# Altium schematic symbol library Serial.SchLib: 4 symbols
Pins are listed as number, name and electrical type; pins without a type are passive.

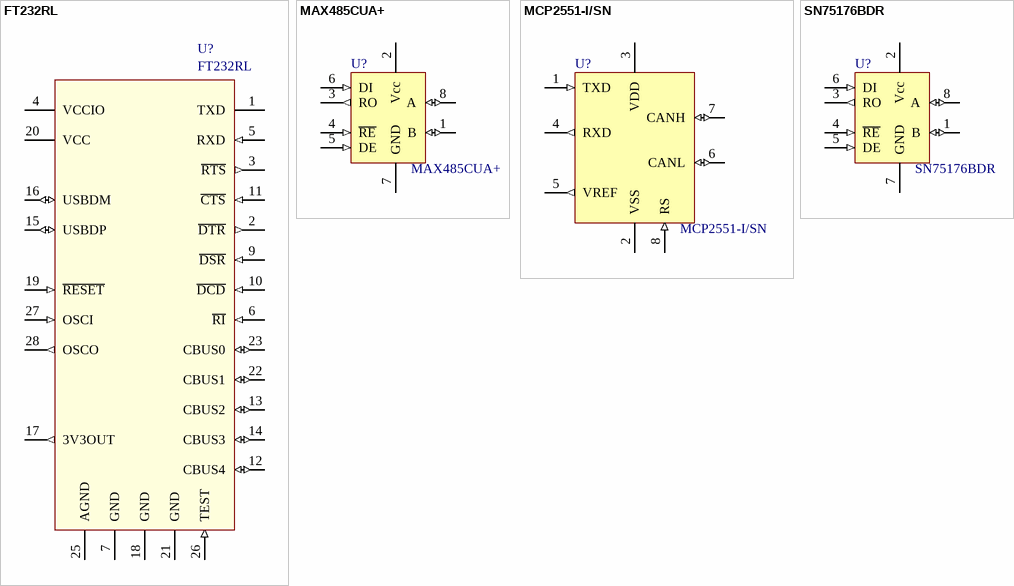
[diagram p0: symbols FT232RL to SN75176BDR]

## FT232RL
designator U?
USB VERS UART CMS SSOP28 232; Manufacturer: FTDI; Manufacturer Part Number: FT232RL; Supplier 1: Farnell; Supplier Part Number 1: 1146032; ComponentLink1Description: Datasheet; ComponentLink1URL: http://www.farnell.com/datasheets/2007793.pdf; Supplier 2: JLCPCB; Supplier Footprint 2: SSOP-28_5.3x10.2x0.65P; Supplier Part Number 2: C8690
footprint SSOP28
pins: 1 TXD, 2 ~{DTR} (out), 3 ~{RTS} (out), 4 VCCIO (power), 5 RXD (in), 6 ~{RI} (in), 7 GND (power), 9 ~{DSR} (in), 10 ~{DCD} (in), 11 ~{CTS} (in), 12 CBUS4 (io), 13 CBUS2 (io), 14 CBUS3 (io), 15 USBDP (io), 16 USBDM (io), 17 3V3OUT (out), 18 GND (power), 19 ~{RESET} (in), 20 VCC (power), 21 GND (power), 22 CBUS1 (io), 23 CBUS0 (io), 25 AGND (power), 26 TEST (in), 27 OSCI (in), 28 OSCO (out)

## MAX485CUA+
designator U?
IC TXRX RS485/RS422 8-UMAX; Manufacturer: Maxim Integrated; Manufacturer Part Number: MAX485CUA+; ComponentLink1URL: http://datasheets.maximintegrated.com/en/ds/MAX1487-MAX491.pdf; ComponentLink1Description: Datasheet; Supplier 1: Farnell; Supplier Part Number 1: 2511735
footprint MSOP-8
pins: 1 B (io) "Inverting Receiver Input and Inverting Driver Output", 2 Vcc (power) "Positive Supply: 4.75V   ≤  V  CC  ≤  5.25V", 3 RO (out), 4 ~{RE} (in), 5 DE (in), 6 DI (in), 7 GND (power), 8 A (io) "Noninverting Receiver Input and Noninverting Driver Output"

## MCP2551-I/SN
designator U?
IC TRANSCEIVER CAN HI-SPD 8-SOIC; Manufacturer: Microchip Technology; Manufacturer Part Number: MCP2551-I/SN; ComponentLink1Description: Datasheet; ComponentLink1URL: http://www.farnell.com/datasheets/657417.pdf; Supplier 1: Farnell; Supplier Part Number 1: 9758569; Supplier 2: JLCPCB; Supplier Part Number 2: C7439; Supplier Footprint 2: SOIC-8_3.9x4.9x1.27P
footprint SOIC127P600X175-8N (SOIC, 8-Leads, Body 4,90x3,90mm, Pitch 1,27mm, IPC Medium Density)
pins: 1 TXD (in), 2 VSS (power), 3 VDD (power), 4 RXD (out), 5 VREF (out), 6 CANL (io), 7 CANH (io), 8 RS (in)

## SN75176BDR
designator U?
IC TXRX RS485/RS422 SOIC-8; Manufacturer: Texas Instruments; Manufacturer Part Number: SN75176BDR; ComponentLink1URL: https://www.ti.com/lit/ds/symlink/sn75176b.pdf?ts=1590921379605; ComponentLink1Description: Datasheet; Supplier 1: Farnell; Supplier 2: JLCPCB; Supplier Part Number 2: C7063; Supplier Part Number 1: 3007055; Supplier Footprint 2: SOIC-8_3.9x4.9x1.27P
footprint SOIC127P600X175-8N (SOIC, 8-Leads, Body 4,90x3,90mm, Pitch 1,27mm, IPC Medium Density)
pins: 1 B (io) "Inverting Receiver Input and Inverting Driver Output", 2 Vcc (power) "Positive Supply: 4.75V   ≤  V  CC  ≤  5.25V", 3 RO (out), 4 ~{RE} (in), 5 DE (in), 6 DI (in), 7 GND (power), 8 A (io) "Noninverting Receiver Input and Noninverting Driver Output"